# Altium footprint library Sangjian_Pcb.PcbLib: 434 footprints (part 19 of 28)
Each footprint in its own frame and in the unit in brackets; x right, y up, seen from the top. Pads: shape width x height; smd on the part's side, far side on the other; paste and mask are expansions set on the pad; w line width, h text height; cw(c..) or ccw(c..) is an arc to the next point about the centre after c.
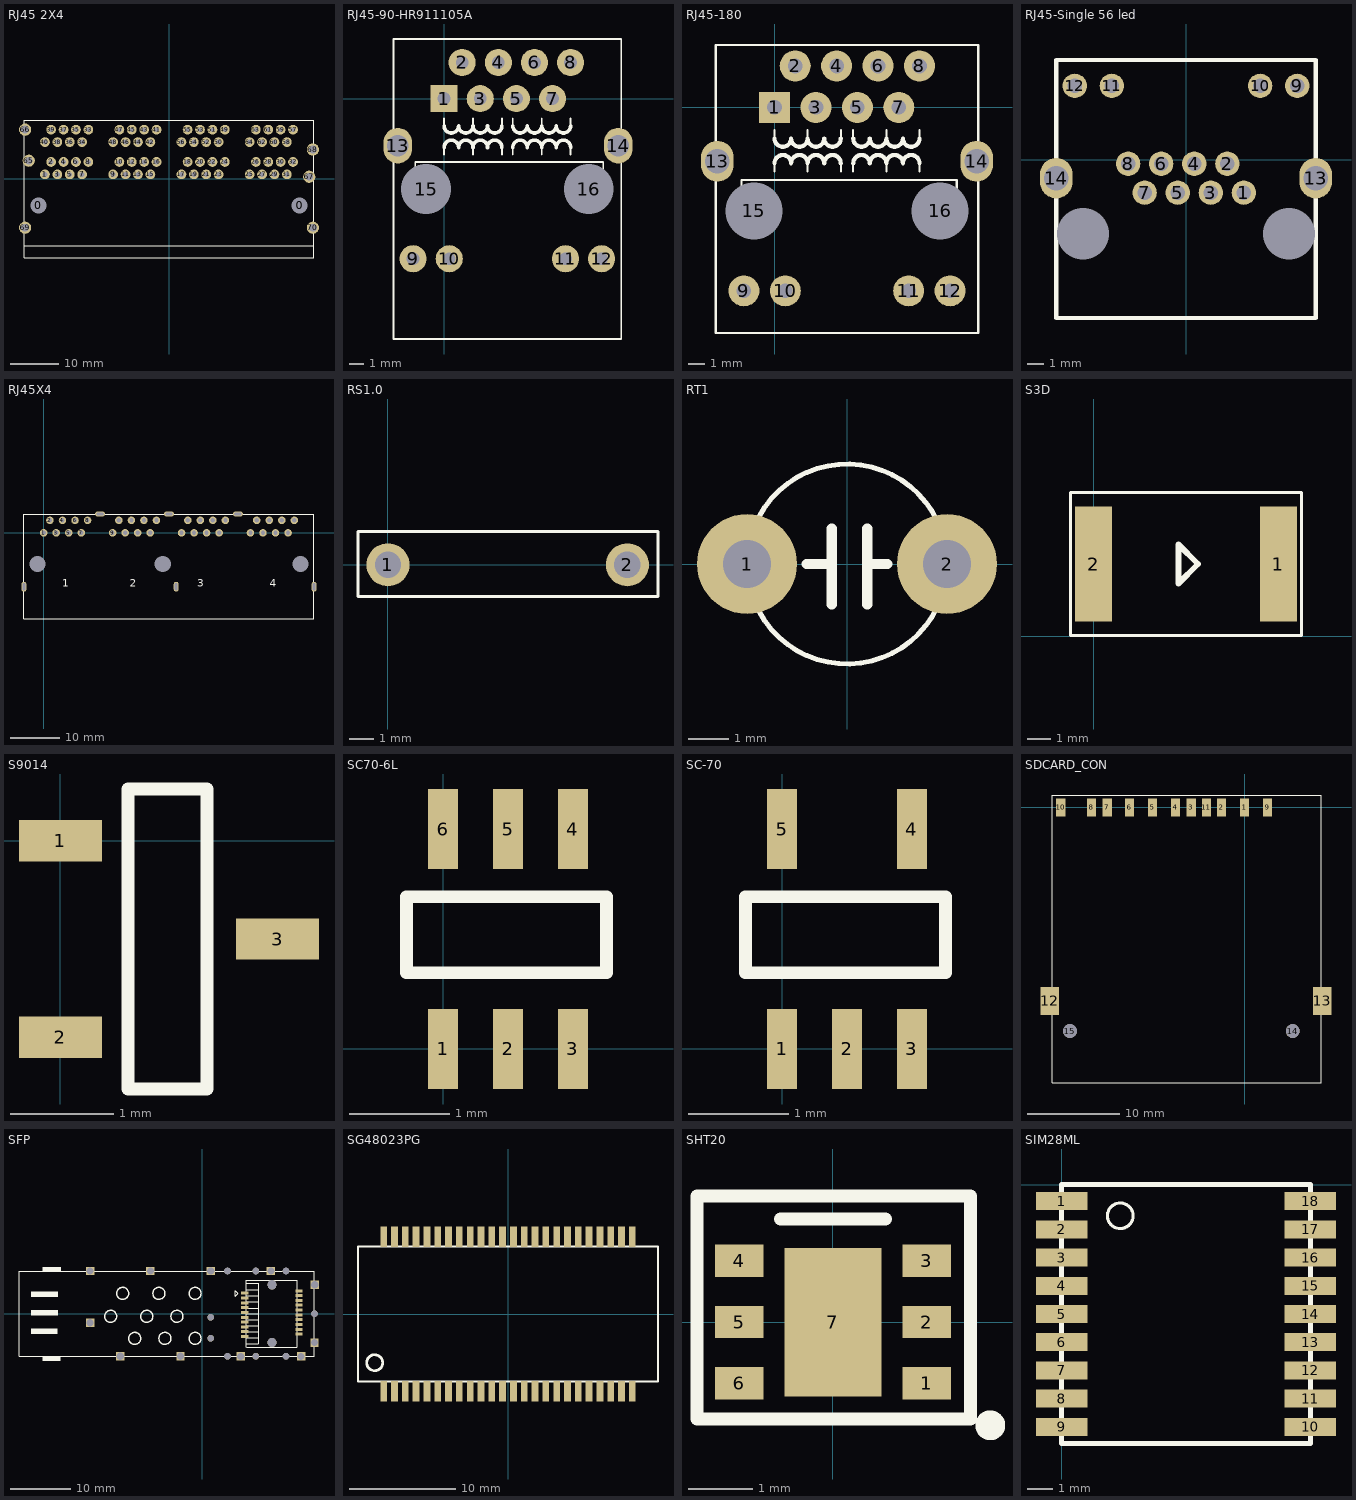
[diagram p18: the footprints below, top view; thin cyan lines are the x and y axes]

## RJ45 2X4 [mm]
pads (72):
  round 3 hole 3.25: 0(-26.72,-5.465) 0(26.72,-5.465)
  round 2 hole 1: 1(-25.4,0.885) 2(-24.13,3.425) 3(-22.86,0.885) 4(-21.59,3.425) 5(-20.32,0.885) 6(-19.05,3.425) 7(-17.78,0.885) 8(-16.51,3.425) 9(-11.43,0.885) 10(-10.16,3.425) 11(-8.89,0.885) 12(-7.62,3.425) 13(-6.35,0.885) 14(-5.08,3.425) 15(-3.81,0.885) 16(-2.54,3.425) 17(2.54,0.885) 18(3.81,3.425) 19(5.08,0.885) 20(6.35,3.425) 21(7.62,0.885) 22(8.89,3.425) 23(10.16,0.885) 24(11.43,3.425) 25(16.51,0.885) 26(17.78,3.425) 27(19.05,0.885) 28(20.32,3.425) 29(21.59,0.885) 30(22.86,3.425) 31(24.13,0.885) 32(25.4,3.425) 33(-16.51,10.025) 34(-17.78,7.485) 35(-19.05,10.025) 36(-20.32,7.485) 37(-21.59,10.025) 38(-22.86,7.485) 39(-24.13,10.025) 40(-25.4,7.485) 41(-2.54,10.025) 42(-3.81,7.485) 43(-5.08,10.025) 44(-6.35,7.485) 45(-7.62,10.025) 46(-8.89,7.485) 47(-10.16,10.025) 48(-11.43,7.485) 49(11.43,10.025) 50(10.16,7.485) 51(8.89,10.025) 52(7.62,7.485) 53(6.35,10.025) 54(5.08,7.485) 55(3.81,10.025) 56(2.54,7.485) 57(25.4,10.025) 58(24.13,7.485) 59(22.86,10.025) 60(21.59,7.485) 61(20.32,10.025) 62(19.05,7.485) 63(17.78,10.025) 64(16.51,7.485)
  round 2.5 hole 1.6: 65(-28.71,3.685) 66(-29.46,10.035) 67(28.71,0.385) 68(29.46,5.965) 69(-29.46,-10.035) 70(29.46,-10.035)
Top Overlay:
  lines w0.2: -29.6,-13.7 29.6,-13.7 ; -29.6,-16.215 29.6,-16.215 29.6,11.985 -29.6,11.985 -29.6,-16.215

## RJ45-90-HR911105A [mm]
pads (16):
  rect 1.905x1.905 hole 0.9: 1(0,0)
  round 1.905 hole 0.9: 2(1.27,2.54) 3(2.54,0) 4(3.81,2.54) 5(5.08,0) 6(6.35,2.54) 7(7.62,0) 8(8.89,2.54) 9(-2.18,-11.25) 10(0.36,-11.25) 11(8.53,-11.25) 12(11.07,-11.25)
  oval 2x2.5 hole 1.5: 13(-3.25,-3.3) 14(12.23,-3.3)
  round 3.302 hole 3.5: 15(-1.27,-6.35) 16(10.16,-6.35)
Top Overlay:
  lines w0.127: -2.032,-4.953 -2.032,-4.445 11.176,-4.445 11.176,-4.953 ; 0,-3.937 0,-3.429 ; 0,-1.905 0,-1.397 ; 2.032,-3.937 2.032,-3.429 ; 2.032,-1.905 2.032,-1.397 ; 4.064,-3.937 4.064,-3.429 ; 4.064,-1.905 4.064,-1.397 ; 4.826,-3.937 4.826,-3.429 ; 4.826,-1.905 4.826,-1.397 ; 6.858,-3.937 6.858,-3.429 ; 6.858,-1.905 6.858,-1.397 ; 8.89,-3.937 8.89,-3.429 ; 8.89,-1.905 8.89,-1.397 ; -3.556,-16.889 12.446,-16.889 12.446,4.191 -3.556,4.191 -3.556,-16.889
  lines w0.254: 0,-3.429 cw(c0.508,-3.429) 1.016,-3.429 cw(c1.524,-3.429) 2.032,-3.429 cw(c2.54,-3.429) 3.048,-3.429 cw(c3.556,-3.429) 4.064,-3.429 ; 0,-1.905 ccw(c0.508,-1.905) 1.016,-1.905 ccw(c1.524,-1.905) 2.032,-1.905 ccw(c2.54,-1.905) 3.048,-1.905 ccw(c3.556,-1.905) 4.064,-1.905 ; 4.826,-3.429 cw(c5.334,-3.429) 5.842,-3.429 cw(c6.35,-3.429) 6.858,-3.429 cw(c7.366,-3.429) 7.874,-3.429 cw(c8.382,-3.429) 8.89,-3.429 ; 4.826,-1.905 ccw(c5.334,-1.905) 5.842,-1.905 ccw(c6.35,-1.905) 6.858,-1.905 ccw(c7.366,-1.905) 7.874,-1.905 ccw(c8.382,-1.905) 8.89,-1.905

## RJ45-180 [mm]
pads (16):
  rect 1.905x1.905 hole 0.9: 1(0,0)
  round 1.905 hole 0.9: 2(1.27,2.54) 3(2.54,0) 4(3.81,2.54) 5(5.08,0) 6(6.35,2.54) 7(7.62,0) 8(8.89,2.54) 9(-1.88,-11.25) 10(0.66,-11.25) 11(8.23,-11.25) 12(10.77,-11.25)
  oval 2x2.5 hole 1.5: 13(-3.505,-3.3) 14(12.395,-3.3)
  round 3.302 hole 3.5: 15(-1.27,-6.35) 16(10.16,-6.35)
Top Overlay:
  lines w0.127: -2.032,-4.953 -2.032,-4.445 11.176,-4.445 11.176,-4.953 ; 0,-3.937 0,-3.429 ; 0,-1.905 0,-1.397 ; 2.032,-3.937 2.032,-3.429 ; 2.032,-1.905 2.032,-1.397 ; 4.064,-3.937 4.064,-3.429 ; 4.064,-1.905 4.064,-1.397 ; 4.826,-3.937 4.826,-3.429 ; 4.826,-1.905 4.826,-1.397 ; 6.858,-3.937 6.858,-3.429 ; 6.858,-1.905 6.858,-1.397 ; 8.89,-3.937 8.89,-3.429 ; 8.89,-1.905 8.89,-1.397 ; -3.605,-13.85 -3.605,3.84 12.495,3.84 12.495,-13.85 -3.605,-13.85
  lines w0.254: 0,-3.429 cw(c0.508,-3.429) 1.016,-3.429 cw(c1.524,-3.429) 2.032,-3.429 cw(c2.54,-3.429) 3.048,-3.429 cw(c3.556,-3.429) 4.064,-3.429 ; 0,-1.905 ccw(c0.508,-1.905) 1.016,-1.905 ccw(c1.524,-1.905) 2.032,-1.905 ccw(c2.54,-1.905) 3.048,-1.905 ccw(c3.556,-1.905) 4.064,-1.905 ; 4.826,-3.429 cw(c5.334,-3.429) 5.842,-3.429 cw(c6.35,-3.429) 6.858,-3.429 cw(c7.366,-3.429) 7.874,-3.429 cw(c8.382,-3.429) 8.89,-3.429 ; 4.826,-1.905 ccw(c5.334,-1.905) 5.842,-1.905 ccw(c6.35,-1.905) 6.858,-1.905 ccw(c7.366,-1.905) 7.874,-1.905 ccw(c8.382,-1.905) 8.89,-1.905

## RJ45-Single 56 led [mm]
pads (16):
  round 1.5 hole 0.9: 1(3.57,-2.02) 2(2.55,-0.24) 3(1.53,-2.02) 4(0.51,-0.24) 5(-0.51,-2.02) 6(-1.53,-0.24) 7(-2.55,-2.02) 8(-3.57,-0.24) 9(6.86,4.56) 10(4.57,4.56) 11(-4.57,4.56) 12(-6.86,4.56)
  oval 2x2.5 hole 1.5: 13(8,-1.13) 14(-8,-1.13)
  round 3 hole 3.2: ""(-6.35,-4.56) ""(6.35,-4.56)
Top Overlay:
  lines w0.254: -8,-9.76 8,-9.76 8,6.166 -8,6.166 -8,-9.76

## RJ45X4 [mil]
pads (41):
  round 50 hole 127.95: 0(-50,-250) 0(950,-250) 0(2050,-250)
  round 60 hole 34: 1(0,0) 2(50,100) 3(100,0) 4(150,100) 5(200,0) 6(250,100) 7(300,0) 8(350,100) 9(550,0) 10(600,100) 11(650,0) 12(700,100) 13(750,0) 14(800,100) 15(850,0) 16(900,100) 17(1100,0) 18(1150,100) 19(1200,0) 20(1250,100) 21(1300,0) 22(1350,100) 23(1400,0) 24(1450,100) 25(1650,0) 26(1700,100) 27(1750,0) 28(1800,100) 29(1850,0) 30(1900,100) 31(1950,0) 32(2000,100)
  oval 78.74x39.37 hole 19.68 slot 55.12 at 0 deg: 33(450,150) 33(1000,150) 33(1550,150)
  oval 39.37x78.74 hole 19.68 slot 55.12 at 90 deg: 34(-157.68,-429.92) 34(1057.48,-429.92) 34(2157.68,-429.92)
Top Overlay:
  lines w5: -158,-687 -158,150 2157,150 2157,-687 -158,-687
  text "4" at 1804,-429.92 h60
  text "3" at 1226,-429.92 h60
  text "2" at 685,-429.92 h60
  text "1" at 148,-429.92 h60

## RS1.0 [mm]
pads (2):
  round 1.8 hole 1.1: 1(0,0) 2(10,0)
Top Overlay:
  lines w0.127: -1.251,-1.321 11.278,-1.321 11.278,1.389 -1.251,1.389 -1.251,-1.321

## RT1 [mm]
pads (2):
  round 2.5 hole 1.2: 1(-2.5,0) 2(2.5,0)
Top Overlay:
  circle w0.127: c0,0 r2.5
  lines w0.254: -1.016,0 -0.381,0 ; -0.381,-1.016 -0.381,0.889 ; 0.508,-1.016 0.508,0.889 ; 0.508,0 1.016,0

## S3D [mm]
pads (2):
  rect 1.6x5 smd: 1(8,3.124) 2(0,3.124)
Top Overlay:
  lines w0.127: -1,0.024 5.6,0.024 9,0.024 9,6.224 -1,6.224 -1,0.024
  lines w0.254: 3.67,2.273 4.521,3.124 3.67,3.975 3.67,2.299

## S9014 [mm]
pads (3):
  rect 0.8x0.4 smd: 1(0,0) 2(0,-1.9) 3(2.1,-0.95)
Top Overlay:
  lines w0.127: 0.654,-2.4 1.416,-2.4 1.416,0.5 0.654,0.5 0.654,-2.4

## SC70-6L [mm]
pads (6):
  rect 0.3x0.8 smd: 1(0,0) 2(0.65,0) 3(1.3,0) 4(1.3,2.2) 5(0.65,2.2) 6(0,2.2)
Top Overlay:
  lines w0.127: -0.365,0.762 -0.365,1.524 1.635,1.524 1.635,0.762 -0.365,0.762

## SC-70 [mm]
pads (5):
  rect 0.3x0.8 smd: 1(0,0) 2(0.65,0) 3(1.3,0) 4(1.3,2.2) 5(0,2.2)
Top Overlay:
  lines w0.127: -0.365,0.762 1.635,0.762 1.635,1.524 -0.365,1.524 -0.365,0.762

## SDCARD_CON [mm]
pads (15):
  rect 1x2 smd: 1(0,0) 2(-2.5,0) 3(-5.8,0) 4(-7.5,0) 5(-10,0) 6(-12.5,0) 7(-14.925,0) 8(-16.625,0) 9(2.5,0) 10(-19.975,0) 11(-4.15,0)
  rect 2x3 smd: 12(-21.159,-21.023) 13(8.432,-21.023)
  round 1.5 hole 1.5 unplated: 14(5.225,-24.3) 15(-18.975,-24.3)
Top Overlay:
  lines w0.127: -20.9,-29.89 -20.9,1.31 8.305,1.31 8.305,-29.89 -20.9,-29.89

## SFP [mm]
pads (40):
  rect 1.2x0.5 smd: 1(7,3.412) 2(7,2.612) 3(7,1.812) 4(7,1.012) 5(7,0.212) 6(7,-0.588) 7(7,-1.388) 8(7,-2.188) 9(7,-2.988) 10(7,-3.788) 11(16,-3.388) 12(16,-2.588) 13(16,-1.788) 14(16,-0.988) 15(16,-0.188) 16(16,0.612) 17(16,1.412) 18(16,2.212) 19(16,3.012) 20(16,3.812)
  rect 1.4x1.4 hole 1.2: ""(-18.638,-1.488) ""(-18.638,7.087) ""(-13.638,-7.063) ""(-8.638,7.087) ""(-3.638,-7.063) ""(1.362,7.087) ""(6.362,-7.087) ""(11.362,7.087) ""(16.362,-7.087) ""(18.587,-4.788) ""(18.638,4.812)
  round 1.1 hole 1.1: ""(1.362,-4.064) ""(1.362,-0.584) ""(4.162,-7.063) ""(4.162,7.087) ""(8.862,-7.063) ""(8.862,7.087) ""(13.862,-7.063) ""(13.862,7.087) ""(18.587,0.012)
via 11.512,-4.788 diameter 1.5 hole 1.5
via 11.512,4.812 diameter 1.5 hole 1.5
Top Overlay:
  circle w0.254: c-13.232,3.376 r1
  circle w0.254: c-7.231,3.376 r1
  circle w0.254: c-1.231,3.376 r1
  circle w0.254: c-15.231,-0.434 r1
  circle w0.254: c-9.231,-0.434 r1
  circle w0.254: c-4.232,-0.434 r1
  circle w0.254: c-11.231,-4.092 r1
  circle w0.254: c-6.231,-4.091 r1
  circle w0.254: c-1.231,-4.091 r1
  rectangle: -26.497,-7.876 -23.551,-7.089
  rectangle: -26.498,6.957 -23.475,7.745
  rectangle: -28.479,2.741 -23.958,3.655
  rectangle: -28.479,-0.256 -24.008,0.658
  rectangle: -28.479,-3.33 -24.059,-2.415
  lines w0.2: 5.426,2.882 5.883,3.339 ; 5.426,2.907 5.426,3.822 5.883,3.364 ; 7.28,-5.563 7.28,5.587 ; 7.284,-2.999 9.24,-2.999 ; 7.284,2.004 9.24,2.004 ; 7.31,-3.99 9.266,-3.99 ; 7.31,-1.983 9.266,-1.983 ; 7.31,-0.993 9.266,-0.993 ; 7.31,-0.002 9.266,-0.002 ; 7.31,0.938 9.266,0.938 ; 7.31,2.995 9.266,2.995 ; 7.31,4.012 9.266,4.011 ; 7.335,-4.981 9.291,-4.981 ; 7.337,-5.563 15.687,-5.563 ; 7.337,5.587 15.687,5.587 ; 7.361,5.028 9.317,5.027 ; 9.342,-4.955 9.342,5.023 ; 15.692,-5.564 15.692,5.586 ; -30.438,-7.063 -30.438,7.087 18.562,7.087 18.562,-7.063 -30.438,-7.063

## SG48023PG [mm]
pads (48):
  rect 0.64x1.94 smd: 1(-11.73,-7.275) 2(-10.71,-7.275) 3(-9.69,-7.275) 4(-8.67,-7.275) 5(-7.65,-7.275) 6(-6.63,-7.275) 7(-5.61,-7.275) 8(-4.59,-7.275) 9(-3.57,-7.275) 10(-2.55,-7.275) 11(-1.53,-7.275) 12(-0.51,-7.275) 13(0.51,-7.275) 14(1.53,-7.275) 15(2.55,-7.275) 16(3.57,-7.275) 17(4.59,-7.275) 18(5.61,-7.275) 19(6.63,-7.275) 20(7.65,-7.275) 21(8.67,-7.275) 22(9.69,-7.275) 23(10.71,-7.275) 24(11.73,-7.275) 25(11.73,7.275) 26(10.71,7.275) 27(9.69,7.275) 28(8.67,7.275) 29(7.65,7.275) 30(6.63,7.275) 31(5.61,7.275) 32(4.59,7.275) 33(3.57,7.275) 34(2.55,7.275) 35(1.53,7.275) 36(0.51,7.275) 37(-0.51,7.275) 38(-1.53,7.275) 39(-2.55,7.275) 40(-3.57,7.275) 41(-4.59,7.275) 42(-5.61,7.275) 43(-6.63,7.275) 44(-7.65,7.275) 45(-8.67,7.275) 46(-9.69,7.275) 47(-10.71,7.275) 48(-11.73,7.275)
Top Overlay:
  circle w0.254: c-12.575,-4.597 r0.754
  lines w0.2: -14.15,-6.35 14.15,-6.35 14.15,6.35 -14.15,6.35 -14.15,-6.35

## SHT20 [mm]
pads (7):
  rect 0.75x0.5 smd: 1(1.452,-0.95) 2(1.452,0) 3(1.452,0.95) 4(-1.452,0.95) 5(-1.452,0) 6(-1.452,-0.95)
  rect 1.5x2.3 smd: 7(0,0)
Top Overlay:
  circle w0.254: c2.438,-1.6 r0.105
  lines w0.2: -0.813,1.6 0.813,1.6 ; -2.108,-1.5 2.134,-1.5 2.134,1.956 -2.108,1.956 -2.108,-1.5

## SIM28ML [mm]
pads (18):
  rect 2x0.7 smd: 1(0,-0.65) 2(0,-1.75) 3(0,-2.85) 4(0,-3.95) 5(0,-5.05) 6(0,-6.15) 7(0,-7.25) 8(0,-8.35) 9(0,-9.45) 10(9.7,-9.45) 11(9.7,-8.35) 12(9.7,-7.25) 13(9.7,-6.15) 14(9.7,-5.05) 15(9.7,-3.95) 16(9.7,-2.85) 17(9.7,-1.75) 18(9.7,-0.65)
Top Overlay:
  circle w0.127: c2.286,-1.219 r0.5
  lines w0.2: 0,-10.1 9.7,-10.1 9.7,0 0,0 0,-10.1